# EAGLE library part NPP-301A-700AT (library NPP-301A-700AT)
Board Mount Pressure Sensors 100 PSIA Non-Ported Source: Datasheet <https://www.arrow.com/en/products/npp-301a-700at/amphenol>
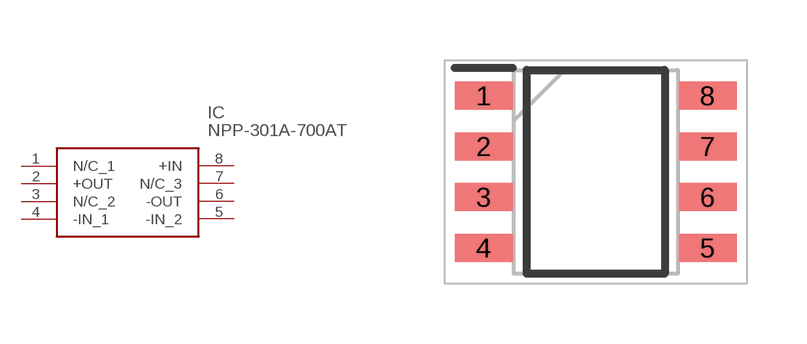
[diagram p0: symbol with the pads of SOIC127P610X280-8N; footprint SOIC127P610X280-8N]

Designator prefix IC

## NPP-301A-700AT (Description: Board Mount Pressure Sensors 100 PSIA Non-Ported; Height: 2.8mm; Manufacturer_Name: Amphenol; Manufacturer_Part_Number: NPP-301A-700AT; Mouser_Part_Number: 527-NPP-301A-700AT; Mouser_Price-Stock: https://www.mouser.co.uk/ProductDetail/Amphenol-Advanced-Sensors/NPP-301A-700AT?qs=7H2Jq%252ByxpJLx2e5J%2Fo8aXg%3D%3D)  [SOIC127P610X280-8N]
1  N/C_1
2  +OUT
3  N/C_2
4  -IN_1
5  -IN_2
6  -OUT
7  N/C_3
8  +IN

## Footprint SOIC127P610X280-8N (pad centres in mm)
NPP-301A-100A-
smd 1.45 x 0.7: 1 -2.8,1.905; 2 -2.8,0.635; 3 -2.8,-0.635; 4 -2.8,-1.905; 5 2.8,-1.905; 6 2.8,-0.635; 7 2.8,0.635; 8 2.8,1.905